# Altium footprint library Connector_PinSocket_1.00mm.PcbLib: 156 footprints (part 9 of 10)
Each footprint in its own frame and in the unit in brackets; x right, y up, seen from the top. Pads: shape width x height; smd on the part's side, far side on the other; paste and mask are expansions set on the pad; w line width, h text height; cw(c..) or ccw(c..) is an arc to the next point about the centre after c.
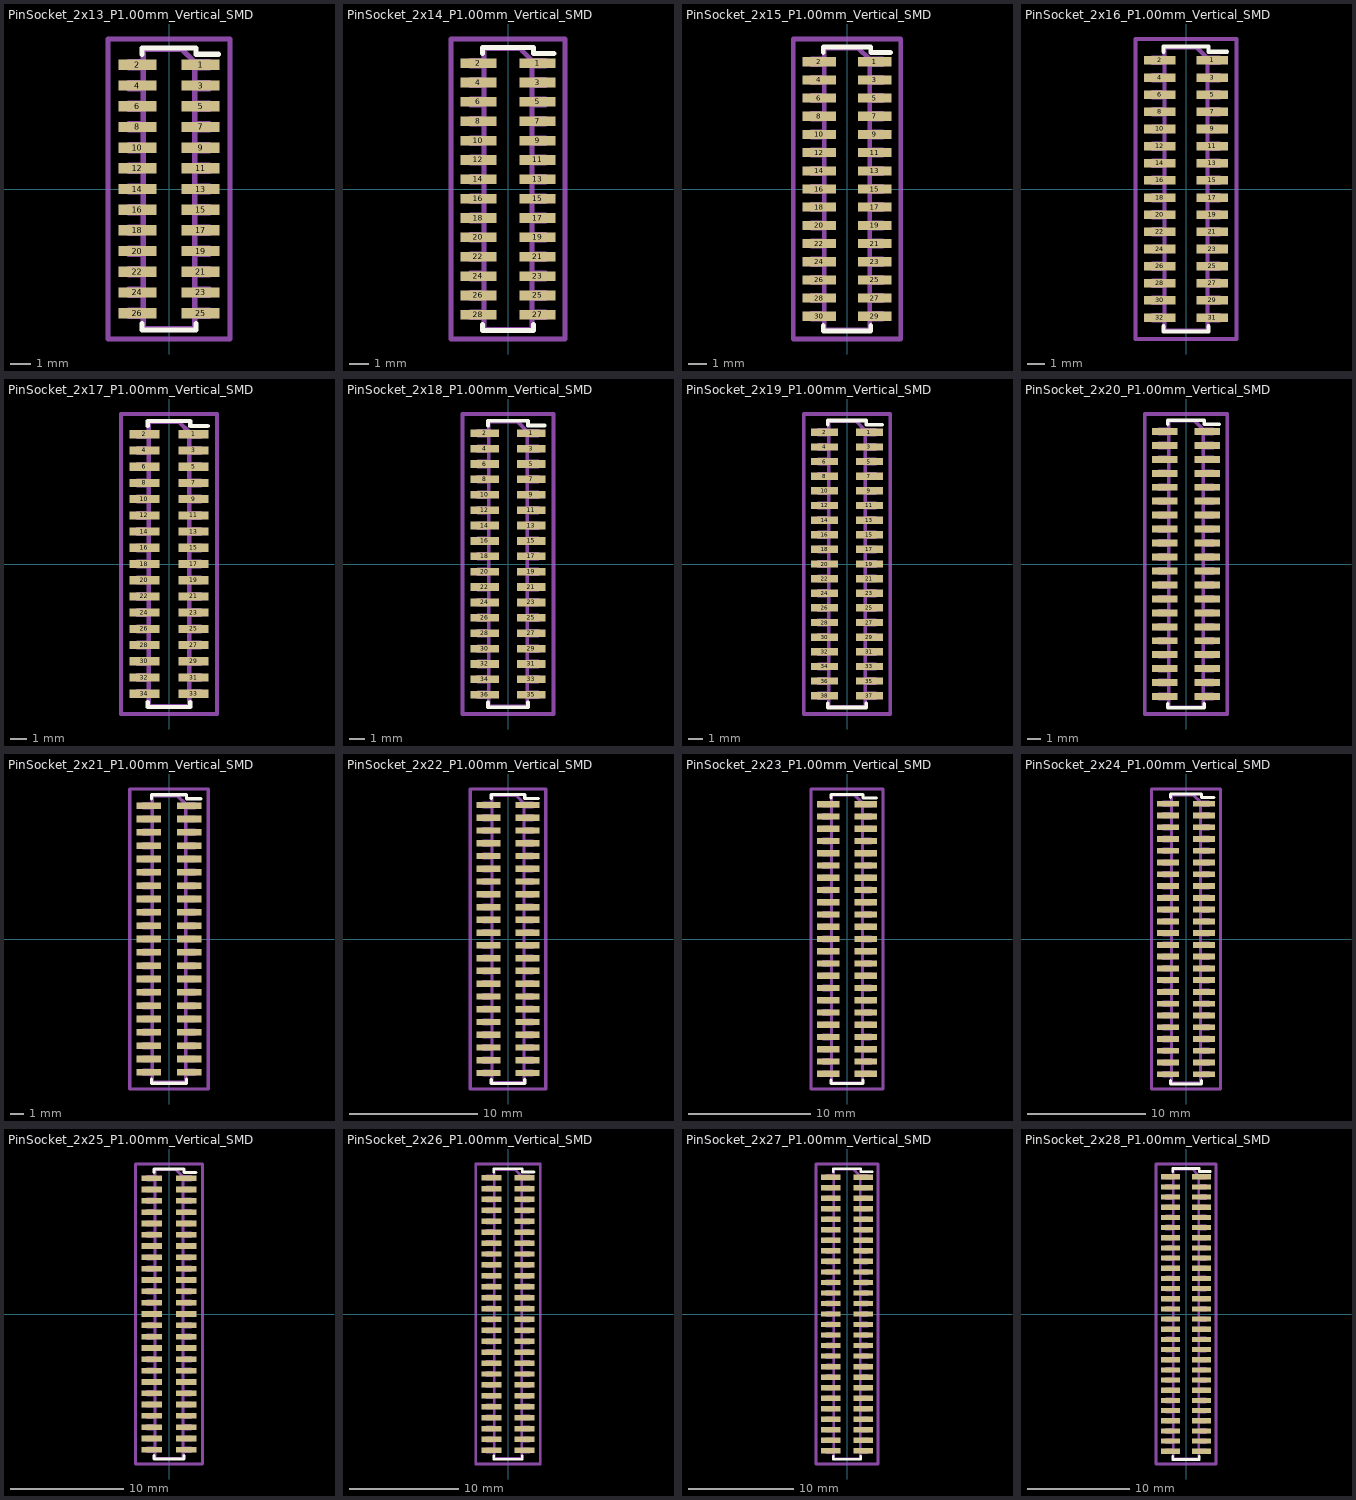
[diagram p8: the footprints below, top view; thin cyan lines are the x and y axes]

## PinSocket_2x13_P1.00mm_Vertical_SMD [mm]
pads (26):
  rect 1.85x0.5 smd: 1(1.525,6) 2(-1.525,6) 3(1.525,5) 4(-1.525,5) 5(1.525,4) 6(-1.525,4) 7(1.525,3) 8(-1.525,3) 9(1.525,2) 10(-1.525,2) 11(1.525,1) 12(-1.525,1) 13(1.525,0) 14(-1.525,0) 15(1.525,-1) 16(-1.525,-1) 17(1.525,-2) 18(-1.525,-2) 19(1.525,-3) 20(-1.525,-3) 21(1.525,-4) 22(-1.525,-4) 23(1.525,-5) 24(-1.525,-5) 25(1.525,-6) 26(-1.525,-6)
F.SilkS:
  lines w0.254: -1.31,-6.51 -1.31,-6.81 1.31,-6.81 1.31,-6.51 ; -1.31,6.51 -1.31,6.81 1.31,6.81 1.31,6.51 2.39,6.51
Top Assembly:
  lines w0.254: -1.25,-6.15 -1.95,-6.15 -1.95,-5.85 -1.25,-5.85 ; -1.25,-5.15 -1.95,-5.15 -1.95,-4.85 -1.25,-4.85 ; -1.25,-4.15 -1.95,-4.15 -1.95,-3.85 -1.25,-3.85 ; -1.25,-3.15 -1.95,-3.15 -1.95,-2.85 -1.25,-2.85 ; -1.25,-2.15 -1.95,-2.15 -1.95,-1.85 -1.25,-1.85 ; -1.25,-1.15 -1.95,-1.15 -1.95,-0.85 -1.25,-0.85 ; -1.25,-0.15 -1.95,-0.15 -1.95,0.15 -1.25,0.15 ; -1.25,0.85 -1.95,0.85 -1.95,1.15 -1.25,1.15 ; -1.25,1.85 -1.95,1.85 -1.95,2.15 -1.25,2.15 ; -1.25,2.85 -1.95,2.85 -1.95,3.15 -1.25,3.15 ; -1.25,3.85 -1.95,3.85 -1.95,4.15 -1.25,4.15 ; -1.25,4.85 -1.95,4.85 -1.95,5.15 -1.25,5.15 ; -1.25,5.85 -1.95,5.85 -1.95,6.15 -1.25,6.15 ; 1.25,-6.15 1.95,-6.15 1.95,-5.85 1.25,-5.85 ; 1.25,-5.15 1.95,-5.15 1.95,-4.85 1.25,-4.85 ; 1.25,-4.15 1.95,-4.15 1.95,-3.85 1.25,-3.85 ; 1.25,-3.15 1.95,-3.15 1.95,-2.85 1.25,-2.85 ; 1.25,-2.15 1.95,-2.15 1.95,-1.85 1.25,-1.85 ; 1.25,-1.15 1.95,-1.15 1.95,-0.85 1.25,-0.85 ; 1.25,-0.15 1.95,-0.15 1.95,0.15 1.25,0.15 ; 1.25,0.85 1.95,0.85 1.95,1.15 1.25,1.15 ; 1.25,1.85 1.95,1.85 1.95,2.15 1.25,2.15 ; 1.25,2.85 1.95,2.85 1.95,3.15 1.25,3.15 ; 1.25,3.85 1.95,3.85 1.95,4.15 1.25,4.15 ; 1.25,4.85 1.95,4.85 1.95,5.15 1.25,5.15 ; 1.25,5.85 1.95,5.85 1.95,6.15 1.25,6.15 ; -1.25,-6.75 1.25,-6.75 1.25,6.125 0.625,6.75 -1.25,6.75 -1.25,-6.75
  text "'.Designator'" at 0.84,-4.047 h1
Top Courtyard:
  lines w0.254: -2.95,-7.25 2.95,-7.25 2.95,7.25 -2.95,7.25 -2.95,-7.25
Top Designator:
  text ".Designator" at -7.618,-0.508 h1.52

## PinSocket_2x14_P1.00mm_Vertical_SMD [mm]
pads (28):
  rect 1.85x0.5 smd: 1(1.525,6.5) 2(-1.525,6.5) 3(1.525,5.5) 4(-1.525,5.5) 5(1.525,4.5) 6(-1.525,4.5) 7(1.525,3.5) 8(-1.525,3.5) 9(1.525,2.5) 10(-1.525,2.5) 11(1.525,1.5) 12(-1.525,1.5) 13(1.525,0.5) 14(-1.525,0.5) 15(1.525,-0.5) 16(-1.525,-0.5) 17(1.525,-1.5) 18(-1.525,-1.5) 19(1.525,-2.5) 20(-1.525,-2.5) 21(1.525,-3.5) 22(-1.525,-3.5) 23(1.525,-4.5) 24(-1.525,-4.5) 25(1.525,-5.5) 26(-1.525,-5.5) 27(1.525,-6.5) 28(-1.525,-6.5)
F.SilkS:
  lines w0.254: -1.31,-7.01 -1.31,-7.31 1.31,-7.31 1.31,-7.01 ; -1.31,7.01 -1.31,7.31 1.31,7.31 1.31,7.01 2.39,7.01
Top Assembly:
  lines w0.254: -1.25,-6.65 -1.95,-6.65 -1.95,-6.35 -1.25,-6.35 ; -1.25,-5.65 -1.95,-5.65 -1.95,-5.35 -1.25,-5.35 ; -1.25,-4.65 -1.95,-4.65 -1.95,-4.35 -1.25,-4.35 ; -1.25,-3.65 -1.95,-3.65 -1.95,-3.35 -1.25,-3.35 ; -1.25,-2.65 -1.95,-2.65 -1.95,-2.35 -1.25,-2.35 ; -1.25,-1.65 -1.95,-1.65 -1.95,-1.35 -1.25,-1.35 ; -1.25,-0.65 -1.95,-0.65 -1.95,-0.35 -1.25,-0.35 ; -1.25,0.35 -1.95,0.35 -1.95,0.65 -1.25,0.65 ; -1.25,1.35 -1.95,1.35 -1.95,1.65 -1.25,1.65 ; -1.25,2.35 -1.95,2.35 -1.95,2.65 -1.25,2.65 ; -1.25,3.35 -1.95,3.35 -1.95,3.65 -1.25,3.65 ; -1.25,4.35 -1.95,4.35 -1.95,4.65 -1.25,4.65 ; -1.25,5.35 -1.95,5.35 -1.95,5.65 -1.25,5.65 ; -1.25,6.35 -1.95,6.35 -1.95,6.65 -1.25,6.65 ; 1.25,-6.65 1.95,-6.65 1.95,-6.35 1.25,-6.35 ; 1.25,-5.65 1.95,-5.65 1.95,-5.35 1.25,-5.35 ; 1.25,-4.65 1.95,-4.65 1.95,-4.35 1.25,-4.35 ; 1.25,-3.65 1.95,-3.65 1.95,-3.35 1.25,-3.35 ; 1.25,-2.65 1.95,-2.65 1.95,-2.35 1.25,-2.35 ; 1.25,-1.65 1.95,-1.65 1.95,-1.35 1.25,-1.35 ; 1.25,-0.65 1.95,-0.65 1.95,-0.35 1.25,-0.35 ; 1.25,0.35 1.95,0.35 1.95,0.65 1.25,0.65 ; 1.25,1.35 1.95,1.35 1.95,1.65 1.25,1.65 ; 1.25,2.35 1.95,2.35 1.95,2.65 1.25,2.65 ; 1.25,3.35 1.95,3.35 1.95,3.65 1.25,3.65 ; 1.25,4.35 1.95,4.35 1.95,4.65 1.25,4.65 ; 1.25,5.35 1.95,5.35 1.95,5.65 1.25,5.65 ; 1.25,6.35 1.95,6.35 1.95,6.65 1.25,6.65 ; -1.25,-7.25 1.25,-7.25 1.25,6.625 0.625,7.25 -1.25,7.25 -1.25,-7.25
  text "'.Designator'" at 0.84,-4.047 h1
Top Courtyard:
  lines w0.254: -2.95,-7.75 2.95,-7.75 2.95,7.75 -2.95,7.75 -2.95,-7.75
Top Designator:
  text ".Designator" at -7.618,-0.508 h1.52

## PinSocket_2x15_P1.00mm_Vertical_SMD [mm]
pads (30):
  rect 1.85x0.5 smd: 1(1.525,7) 2(-1.525,7) 3(1.525,6) 4(-1.525,6) 5(1.525,5) 6(-1.525,5) 7(1.525,4) 8(-1.525,4) 9(1.525,3) 10(-1.525,3) 11(1.525,2) 12(-1.525,2) 13(1.525,1) 14(-1.525,1) 15(1.525,0) 16(-1.525,0) 17(1.525,-1) 18(-1.525,-1) 19(1.525,-2) 20(-1.525,-2) 21(1.525,-3) 22(-1.525,-3) 23(1.525,-4) 24(-1.525,-4) 25(1.525,-5) 26(-1.525,-5) 27(1.525,-6) 28(-1.525,-6) 29(1.525,-7) 30(-1.525,-7)
F.SilkS:
  lines w0.254: -1.31,-7.51 -1.31,-7.81 1.31,-7.81 1.31,-7.51 ; -1.31,7.51 -1.31,7.81 1.31,7.81 1.31,7.51 2.39,7.51
Top Assembly:
  lines w0.254: -1.25,-7.15 -1.95,-7.15 -1.95,-6.85 -1.25,-6.85 ; -1.25,-6.15 -1.95,-6.15 -1.95,-5.85 -1.25,-5.85 ; -1.25,-5.15 -1.95,-5.15 -1.95,-4.85 -1.25,-4.85 ; -1.25,-4.15 -1.95,-4.15 -1.95,-3.85 -1.25,-3.85 ; -1.25,-3.15 -1.95,-3.15 -1.95,-2.85 -1.25,-2.85 ; -1.25,-2.15 -1.95,-2.15 -1.95,-1.85 -1.25,-1.85 ; -1.25,-1.15 -1.95,-1.15 -1.95,-0.85 -1.25,-0.85 ; -1.25,-0.15 -1.95,-0.15 -1.95,0.15 -1.25,0.15 ; -1.25,0.85 -1.95,0.85 -1.95,1.15 -1.25,1.15 ; -1.25,1.85 -1.95,1.85 -1.95,2.15 -1.25,2.15 ; -1.25,2.85 -1.95,2.85 -1.95,3.15 -1.25,3.15 ; -1.25,3.85 -1.95,3.85 -1.95,4.15 -1.25,4.15 ; -1.25,4.85 -1.95,4.85 -1.95,5.15 -1.25,5.15 ; -1.25,5.85 -1.95,5.85 -1.95,6.15 -1.25,6.15 ; -1.25,6.85 -1.95,6.85 -1.95,7.15 -1.25,7.15 ; 1.25,-7.15 1.95,-7.15 1.95,-6.85 1.25,-6.85 ; 1.25,-6.15 1.95,-6.15 1.95,-5.85 1.25,-5.85 ; 1.25,-5.15 1.95,-5.15 1.95,-4.85 1.25,-4.85 ; 1.25,-4.15 1.95,-4.15 1.95,-3.85 1.25,-3.85 ; 1.25,-3.15 1.95,-3.15 1.95,-2.85 1.25,-2.85 ; 1.25,-2.15 1.95,-2.15 1.95,-1.85 1.25,-1.85 ; 1.25,-1.15 1.95,-1.15 1.95,-0.85 1.25,-0.85 ; 1.25,-0.15 1.95,-0.15 1.95,0.15 1.25,0.15 ; 1.25,0.85 1.95,0.85 1.95,1.15 1.25,1.15 ; 1.25,1.85 1.95,1.85 1.95,2.15 1.25,2.15 ; 1.25,2.85 1.95,2.85 1.95,3.15 1.25,3.15 ; 1.25,3.85 1.95,3.85 1.95,4.15 1.25,4.15 ; 1.25,4.85 1.95,4.85 1.95,5.15 1.25,5.15 ; 1.25,5.85 1.95,5.85 1.95,6.15 1.25,6.15 ; 1.25,6.85 1.95,6.85 1.95,7.15 1.25,7.15 ; -1.25,-7.75 1.25,-7.75 1.25,7.125 0.625,7.75 -1.25,7.75 -1.25,-7.75
  text "'.Designator'" at 0.84,-4.047 h1
Top Courtyard:
  lines w0.254: -2.95,-8.25 2.95,-8.25 2.95,8.25 -2.95,8.25 -2.95,-8.25
Top Designator:
  text ".Designator" at -7.618,-0.508 h1.52

## PinSocket_2x16_P1.00mm_Vertical_SMD [mm]
pads (32):
  rect 1.85x0.5 smd: 1(1.525,7.5) 2(-1.525,7.5) 3(1.525,6.5) 4(-1.525,6.5) 5(1.525,5.5) 6(-1.525,5.5) 7(1.525,4.5) 8(-1.525,4.5) 9(1.525,3.5) 10(-1.525,3.5) 11(1.525,2.5) 12(-1.525,2.5) 13(1.525,1.5) 14(-1.525,1.5) 15(1.525,0.5) 16(-1.525,0.5) 17(1.525,-0.5) 18(-1.525,-0.5) 19(1.525,-1.5) 20(-1.525,-1.5) 21(1.525,-2.5) 22(-1.525,-2.5) 23(1.525,-3.5) 24(-1.525,-3.5) 25(1.525,-4.5) 26(-1.525,-4.5) 27(1.525,-5.5) 28(-1.525,-5.5) 29(1.525,-6.5) 30(-1.525,-6.5) 31(1.525,-7.5) 32(-1.525,-7.5)
F.SilkS:
  lines w0.254: -1.31,-8.01 -1.31,-8.31 1.31,-8.31 1.31,-8.01 ; -1.31,8.01 -1.31,8.31 1.31,8.31 1.31,8.01 2.39,8.01
Top Assembly:
  lines w0.254: -1.25,-7.65 -1.95,-7.65 -1.95,-7.35 -1.25,-7.35 ; -1.25,-6.65 -1.95,-6.65 -1.95,-6.35 -1.25,-6.35 ; -1.25,-5.65 -1.95,-5.65 -1.95,-5.35 -1.25,-5.35 ; -1.25,-4.65 -1.95,-4.65 -1.95,-4.35 -1.25,-4.35 ; -1.25,-3.65 -1.95,-3.65 -1.95,-3.35 -1.25,-3.35 ; -1.25,-2.65 -1.95,-2.65 -1.95,-2.35 -1.25,-2.35 ; -1.25,-1.65 -1.95,-1.65 -1.95,-1.35 -1.25,-1.35 ; -1.25,-0.65 -1.95,-0.65 -1.95,-0.35 -1.25,-0.35 ; -1.25,0.35 -1.95,0.35 -1.95,0.65 -1.25,0.65 ; -1.25,1.35 -1.95,1.35 -1.95,1.65 -1.25,1.65 ; -1.25,2.35 -1.95,2.35 -1.95,2.65 -1.25,2.65 ; -1.25,3.35 -1.95,3.35 -1.95,3.65 -1.25,3.65 ; -1.25,4.35 -1.95,4.35 -1.95,4.65 -1.25,4.65 ; -1.25,5.35 -1.95,5.35 -1.95,5.65 -1.25,5.65 ; -1.25,6.35 -1.95,6.35 -1.95,6.65 -1.25,6.65 ; -1.25,7.35 -1.95,7.35 -1.95,7.65 -1.25,7.65 ; 1.25,-7.65 1.95,-7.65 1.95,-7.35 1.25,-7.35 ; 1.25,-6.65 1.95,-6.65 1.95,-6.35 1.25,-6.35 ; 1.25,-5.65 1.95,-5.65 1.95,-5.35 1.25,-5.35 ; 1.25,-4.65 1.95,-4.65 1.95,-4.35 1.25,-4.35 ; 1.25,-3.65 1.95,-3.65 1.95,-3.35 1.25,-3.35 ; 1.25,-2.65 1.95,-2.65 1.95,-2.35 1.25,-2.35 ; 1.25,-1.65 1.95,-1.65 1.95,-1.35 1.25,-1.35 ; 1.25,-0.65 1.95,-0.65 1.95,-0.35 1.25,-0.35 ; 1.25,0.35 1.95,0.35 1.95,0.65 1.25,0.65 ; 1.25,1.35 1.95,1.35 1.95,1.65 1.25,1.65 ; 1.25,2.35 1.95,2.35 1.95,2.65 1.25,2.65 ; 1.25,3.35 1.95,3.35 1.95,3.65 1.25,3.65 ; 1.25,4.35 1.95,4.35 1.95,4.65 1.25,4.65 ; 1.25,5.35 1.95,5.35 1.95,5.65 1.25,5.65 ; 1.25,6.35 1.95,6.35 1.95,6.65 1.25,6.65 ; 1.25,7.35 1.95,7.35 1.95,7.65 1.25,7.65 ; -1.25,-8.25 1.25,-8.25 1.25,7.625 0.625,8.25 -1.25,8.25 -1.25,-8.25
  text "'.Designator'" at 0.84,-4.047 h1
Top Courtyard:
  lines w0.254: -2.95,-8.75 2.95,-8.75 2.95,8.75 -2.95,8.75 -2.95,-8.75
Top Designator:
  text ".Designator" at -7.618,-0.508 h1.52

## PinSocket_2x17_P1.00mm_Vertical_SMD [mm]
pads (34):
  rect 1.85x0.5 smd: 1(1.525,8) 2(-1.525,8) 3(1.525,7) 4(-1.525,7) 5(1.525,6) 6(-1.525,6) 7(1.525,5) 8(-1.525,5) 9(1.525,4) 10(-1.525,4) 11(1.525,3) 12(-1.525,3) 13(1.525,2) 14(-1.525,2) 15(1.525,1) 16(-1.525,1) 17(1.525,0) 18(-1.525,0) 19(1.525,-1) 20(-1.525,-1) 21(1.525,-2) 22(-1.525,-2) 23(1.525,-3) 24(-1.525,-3) 25(1.525,-4) 26(-1.525,-4) 27(1.525,-5) 28(-1.525,-5) 29(1.525,-6) 30(-1.525,-6) 31(1.525,-7) 32(-1.525,-7) 33(1.525,-8) 34(-1.525,-8)
F.SilkS:
  lines w0.254: -1.31,-8.51 -1.31,-8.81 1.31,-8.81 1.31,-8.51 ; -1.31,8.51 -1.31,8.81 1.31,8.81 1.31,8.51 2.39,8.51
Top Assembly:
  lines w0.254: -1.25,-8.15 -1.95,-8.15 -1.95,-7.85 -1.25,-7.85 ; -1.25,-7.15 -1.95,-7.15 -1.95,-6.85 -1.25,-6.85 ; -1.25,-6.15 -1.95,-6.15 -1.95,-5.85 -1.25,-5.85 ; -1.25,-5.15 -1.95,-5.15 -1.95,-4.85 -1.25,-4.85 ; -1.25,-4.15 -1.95,-4.15 -1.95,-3.85 -1.25,-3.85 ; -1.25,-3.15 -1.95,-3.15 -1.95,-2.85 -1.25,-2.85 ; -1.25,-2.15 -1.95,-2.15 -1.95,-1.85 -1.25,-1.85 ; -1.25,-1.15 -1.95,-1.15 -1.95,-0.85 -1.25,-0.85 ; -1.25,-0.15 -1.95,-0.15 -1.95,0.15 -1.25,0.15 ; -1.25,0.85 -1.95,0.85 -1.95,1.15 -1.25,1.15 ; -1.25,1.85 -1.95,1.85 -1.95,2.15 -1.25,2.15 ; -1.25,2.85 -1.95,2.85 -1.95,3.15 -1.25,3.15 ; -1.25,3.85 -1.95,3.85 -1.95,4.15 -1.25,4.15 ; -1.25,4.85 -1.95,4.85 -1.95,5.15 -1.25,5.15 ; -1.25,5.85 -1.95,5.85 -1.95,6.15 -1.25,6.15 ; -1.25,6.85 -1.95,6.85 -1.95,7.15 -1.25,7.15 ; -1.25,7.85 -1.95,7.85 -1.95,8.15 -1.25,8.15 ; 1.25,-8.15 1.95,-8.15 1.95,-7.85 1.25,-7.85 ; 1.25,-7.15 1.95,-7.15 1.95,-6.85 1.25,-6.85 ; 1.25,-6.15 1.95,-6.15 1.95,-5.85 1.25,-5.85 ; 1.25,-5.15 1.95,-5.15 1.95,-4.85 1.25,-4.85 ; 1.25,-4.15 1.95,-4.15 1.95,-3.85 1.25,-3.85 ; 1.25,-3.15 1.95,-3.15 1.95,-2.85 1.25,-2.85 ; 1.25,-2.15 1.95,-2.15 1.95,-1.85 1.25,-1.85 ; 1.25,-1.15 1.95,-1.15 1.95,-0.85 1.25,-0.85 ; 1.25,-0.15 1.95,-0.15 1.95,0.15 1.25,0.15 ; 1.25,0.85 1.95,0.85 1.95,1.15 1.25,1.15 ; 1.25,1.85 1.95,1.85 1.95,2.15 1.25,2.15 ; 1.25,2.85 1.95,2.85 1.95,3.15 1.25,3.15 ; 1.25,3.85 1.95,3.85 1.95,4.15 1.25,4.15 ; 1.25,4.85 1.95,4.85 1.95,5.15 1.25,5.15 ; 1.25,5.85 1.95,5.85 1.95,6.15 1.25,6.15 ; 1.25,6.85 1.95,6.85 1.95,7.15 1.25,7.15 ; 1.25,7.85 1.95,7.85 1.95,8.15 1.25,8.15 ; -1.25,-8.75 1.25,-8.75 1.25,8.125 0.625,8.75 -1.25,8.75 -1.25,-8.75
  text "'.Designator'" at 0.84,-4.047 h1
Top Courtyard:
  lines w0.254: -2.95,-9.25 2.95,-9.25 2.95,9.25 -2.95,9.25 -2.95,-9.25
Top Designator:
  text ".Designator" at -7.618,-0.508 h1.52

## PinSocket_2x18_P1.00mm_Vertical_SMD [mm]
pads (36):
  rect 1.85x0.5 smd: 1(1.525,8.5) 2(-1.525,8.5) 3(1.525,7.5) 4(-1.525,7.5) 5(1.525,6.5) 6(-1.525,6.5) 7(1.525,5.5) 8(-1.525,5.5) 9(1.525,4.5) 10(-1.525,4.5) 11(1.525,3.5) 12(-1.525,3.5) 13(1.525,2.5) 14(-1.525,2.5) 15(1.525,1.5) 16(-1.525,1.5) 17(1.525,0.5) 18(-1.525,0.5) 19(1.525,-0.5) 20(-1.525,-0.5) 21(1.525,-1.5) 22(-1.525,-1.5) 23(1.525,-2.5) 24(-1.525,-2.5) 25(1.525,-3.5) 26(-1.525,-3.5) 27(1.525,-4.5) 28(-1.525,-4.5) 29(1.525,-5.5) 30(-1.525,-5.5) 31(1.525,-6.5) 32(-1.525,-6.5) 33(1.525,-7.5) 34(-1.525,-7.5) 35(1.525,-8.5) 36(-1.525,-8.5)
F.SilkS:
  lines w0.254: -1.31,-9.01 -1.31,-9.31 1.31,-9.31 1.31,-9.01 ; -1.31,9.01 -1.31,9.31 1.31,9.31 1.31,9.01 2.39,9.01
Top Assembly:
  lines w0.254: -1.25,-8.65 -1.95,-8.65 -1.95,-8.35 -1.25,-8.35 ; -1.25,-7.65 -1.95,-7.65 -1.95,-7.35 -1.25,-7.35 ; -1.25,-6.65 -1.95,-6.65 -1.95,-6.35 -1.25,-6.35 ; -1.25,-5.65 -1.95,-5.65 -1.95,-5.35 -1.25,-5.35 ; -1.25,-4.65 -1.95,-4.65 -1.95,-4.35 -1.25,-4.35 ; -1.25,-3.65 -1.95,-3.65 -1.95,-3.35 -1.25,-3.35 ; -1.25,-2.65 -1.95,-2.65 -1.95,-2.35 -1.25,-2.35 ; -1.25,-1.65 -1.95,-1.65 -1.95,-1.35 -1.25,-1.35 ; -1.25,-0.65 -1.95,-0.65 -1.95,-0.35 -1.25,-0.35 ; -1.25,0.35 -1.95,0.35 -1.95,0.65 -1.25,0.65 ; -1.25,1.35 -1.95,1.35 -1.95,1.65 -1.25,1.65 ; -1.25,2.35 -1.95,2.35 -1.95,2.65 -1.25,2.65 ; -1.25,3.35 -1.95,3.35 -1.95,3.65 -1.25,3.65 ; -1.25,4.35 -1.95,4.35 -1.95,4.65 -1.25,4.65 ; -1.25,5.35 -1.95,5.35 -1.95,5.65 -1.25,5.65 ; -1.25,6.35 -1.95,6.35 -1.95,6.65 -1.25,6.65 ; -1.25,7.35 -1.95,7.35 -1.95,7.65 -1.25,7.65 ; -1.25,8.35 -1.95,8.35 -1.95,8.65 -1.25,8.65 ; 1.25,-8.65 1.95,-8.65 1.95,-8.35 1.25,-8.35 ; 1.25,-7.65 1.95,-7.65 1.95,-7.35 1.25,-7.35 ; 1.25,-6.65 1.95,-6.65 1.95,-6.35 1.25,-6.35 ; 1.25,-5.65 1.95,-5.65 1.95,-5.35 1.25,-5.35 ; 1.25,-4.65 1.95,-4.65 1.95,-4.35 1.25,-4.35 ; 1.25,-3.65 1.95,-3.65 1.95,-3.35 1.25,-3.35 ; 1.25,-2.65 1.95,-2.65 1.95,-2.35 1.25,-2.35 ; 1.25,-1.65 1.95,-1.65 1.95,-1.35 1.25,-1.35 ; 1.25,-0.65 1.95,-0.65 1.95,-0.35 1.25,-0.35 ; 1.25,0.35 1.95,0.35 1.95,0.65 1.25,0.65 ; 1.25,1.35 1.95,1.35 1.95,1.65 1.25,1.65 ; 1.25,2.35 1.95,2.35 1.95,2.65 1.25,2.65 ; 1.25,3.35 1.95,3.35 1.95,3.65 1.25,3.65 ; 1.25,4.35 1.95,4.35 1.95,4.65 1.25,4.65 ; 1.25,5.35 1.95,5.35 1.95,5.65 1.25,5.65 ; 1.25,6.35 1.95,6.35 1.95,6.65 1.25,6.65 ; 1.25,7.35 1.95,7.35 1.95,7.65 1.25,7.65 ; 1.25,8.35 1.95,8.35 1.95,8.65 1.25,8.65 ; -1.25,-9.25 1.25,-9.25 1.25,8.625 0.625,9.25 -1.25,9.25 -1.25,-9.25
  text "'.Designator'" at 0.84,-4.047 h1
Top Courtyard:
  lines w0.254: -2.95,-9.75 2.95,-9.75 2.95,9.75 -2.95,9.75 -2.95,-9.75
Top Designator:
  text ".Designator" at -7.618,-0.508 h1.52

## PinSocket_2x19_P1.00mm_Vertical_SMD [mm]
pads (38):
  rect 1.85x0.5 smd: 1(1.525,9) 2(-1.525,9) 3(1.525,8) 4(-1.525,8) 5(1.525,7) 6(-1.525,7) 7(1.525,6) 8(-1.525,6) 9(1.525,5) 10(-1.525,5) 11(1.525,4) 12(-1.525,4) 13(1.525,3) 14(-1.525,3) 15(1.525,2) 16(-1.525,2) 17(1.525,1) 18(-1.525,1) 19(1.525,0) 20(-1.525,0) 21(1.525,-1) 22(-1.525,-1) 23(1.525,-2) 24(-1.525,-2) 25(1.525,-3) 26(-1.525,-3) 27(1.525,-4) 28(-1.525,-4) 29(1.525,-5) 30(-1.525,-5) 31(1.525,-6) 32(-1.525,-6) 33(1.525,-7) 34(-1.525,-7) 35(1.525,-8) 36(-1.525,-8) 37(1.525,-9) 38(-1.525,-9)
F.SilkS:
  lines w0.254: -1.31,-9.51 -1.31,-9.81 1.31,-9.81 1.31,-9.51 ; -1.31,9.51 -1.31,9.81 1.31,9.81 1.31,9.51 2.39,9.51
Top Assembly:
  lines w0.254: -1.25,-9.15 -1.95,-9.15 -1.95,-8.85 -1.25,-8.85 ; -1.25,-8.15 -1.95,-8.15 -1.95,-7.85 -1.25,-7.85 ; -1.25,-7.15 -1.95,-7.15 -1.95,-6.85 -1.25,-6.85 ; -1.25,-6.15 -1.95,-6.15 -1.95,-5.85 -1.25,-5.85 ; -1.25,-5.15 -1.95,-5.15 -1.95,-4.85 -1.25,-4.85 ; -1.25,-4.15 -1.95,-4.15 -1.95,-3.85 -1.25,-3.85 ; -1.25,-3.15 -1.95,-3.15 -1.95,-2.85 -1.25,-2.85 ; -1.25,-2.15 -1.95,-2.15 -1.95,-1.85 -1.25,-1.85 ; -1.25,-1.15 -1.95,-1.15 -1.95,-0.85 -1.25,-0.85 ; -1.25,-0.15 -1.95,-0.15 -1.95,0.15 -1.25,0.15 ; -1.25,0.85 -1.95,0.85 -1.95,1.15 -1.25,1.15 ; -1.25,1.85 -1.95,1.85 -1.95,2.15 -1.25,2.15 ; -1.25,2.85 -1.95,2.85 -1.95,3.15 -1.25,3.15 ; -1.25,3.85 -1.95,3.85 -1.95,4.15 -1.25,4.15 ; -1.25,4.85 -1.95,4.85 -1.95,5.15 -1.25,5.15 ; -1.25,5.85 -1.95,5.85 -1.95,6.15 -1.25,6.15 ; -1.25,6.85 -1.95,6.85 -1.95,7.15 -1.25,7.15 ; -1.25,7.85 -1.95,7.85 -1.95,8.15 -1.25,8.15 ; -1.25,8.85 -1.95,8.85 -1.95,9.15 -1.25,9.15 ; 1.25,-9.15 1.95,-9.15 1.95,-8.85 1.25,-8.85 ; 1.25,-8.15 1.95,-8.15 1.95,-7.85 1.25,-7.85 ; 1.25,-7.15 1.95,-7.15 1.95,-6.85 1.25,-6.85 ; 1.25,-6.15 1.95,-6.15 1.95,-5.85 1.25,-5.85 ; 1.25,-5.15 1.95,-5.15 1.95,-4.85 1.25,-4.85 ; 1.25,-4.15 1.95,-4.15 1.95,-3.85 1.25,-3.85 ; 1.25,-3.15 1.95,-3.15 1.95,-2.85 1.25,-2.85 ; 1.25,-2.15 1.95,-2.15 1.95,-1.85 1.25,-1.85 ; 1.25,-1.15 1.95,-1.15 1.95,-0.85 1.25,-0.85 ; 1.25,-0.15 1.95,-0.15 1.95,0.15 1.25,0.15 ; 1.25,0.85 1.95,0.85 1.95,1.15 1.25,1.15 ; 1.25,1.85 1.95,1.85 1.95,2.15 1.25,2.15 ; 1.25,2.85 1.95,2.85 1.95,3.15 1.25,3.15 ; 1.25,3.85 1.95,3.85 1.95,4.15 1.25,4.15 ; 1.25,4.85 1.95,4.85 1.95,5.15 1.25,5.15 ; 1.25,5.85 1.95,5.85 1.95,6.15 1.25,6.15 ; 1.25,6.85 1.95,6.85 1.95,7.15 1.25,7.15 ; 1.25,7.85 1.95,7.85 1.95,8.15 1.25,8.15 ; 1.25,8.85 1.95,8.85 1.95,9.15 1.25,9.15 ; -1.25,-9.75 1.25,-9.75 1.25,9.125 0.625,9.75 -1.25,9.75 -1.25,-9.75
  text "'.Designator'" at 0.84,-4.047 h1
Top Courtyard:
  lines w0.254: -2.95,-10.25 2.95,-10.25 2.95,10.25 -2.95,10.25 -2.95,-10.25
Top Designator:
  text ".Designator" at -7.618,-0.508 h1.52

## PinSocket_2x20_P1.00mm_Vertical_SMD [mm]
pads (40):
  rect 1.85x0.5 smd: 1(1.525,9.5) 2(-1.525,9.5) 3(1.525,8.5) 4(-1.525,8.5) 5(1.525,7.5) 6(-1.525,7.5) 7(1.525,6.5) 8(-1.525,6.5) 9(1.525,5.5) 10(-1.525,5.5) 11(1.525,4.5) 12(-1.525,4.5) 13(1.525,3.5) 14(-1.525,3.5) 15(1.525,2.5) 16(-1.525,2.5) 17(1.525,1.5) 18(-1.525,1.5) 19(1.525,0.5) 20(-1.525,0.5) 21(1.525,-0.5) 22(-1.525,-0.5) 23(1.525,-1.5) 24(-1.525,-1.5) 25(1.525,-2.5) 26(-1.525,-2.5) 27(1.525,-3.5) 28(-1.525,-3.5) 29(1.525,-4.5) 30(-1.525,-4.5) 31(1.525,-5.5) 32(-1.525,-5.5) 33(1.525,-6.5) 34(-1.525,-6.5) 35(1.525,-7.5) 36(-1.525,-7.5) 37(1.525,-8.5) 38(-1.525,-8.5) 39(1.525,-9.5) 40(-1.525,-9.5)
F.SilkS:
  lines w0.254: -1.31,-10.01 -1.31,-10.31 1.31,-10.31 1.31,-10.01 ; -1.31,10.01 -1.31,10.31 1.31,10.31 1.31,10.01 2.39,10.01
Top Assembly:
  lines w0.254: -1.25,-9.65 -1.95,-9.65 -1.95,-9.35 -1.25,-9.35 ; -1.25,-8.65 -1.95,-8.65 -1.95,-8.35 -1.25,-8.35 ; -1.25,-7.65 -1.95,-7.65 -1.95,-7.35 -1.25,-7.35 ; -1.25,-6.65 -1.95,-6.65 -1.95,-6.35 -1.25,-6.35 ; -1.25,-5.65 -1.95,-5.65 -1.95,-5.35 -1.25,-5.35 ; -1.25,-4.65 -1.95,-4.65 -1.95,-4.35 -1.25,-4.35 ; -1.25,-3.65 -1.95,-3.65 -1.95,-3.35 -1.25,-3.35 ; -1.25,-2.65 -1.95,-2.65 -1.95,-2.35 -1.25,-2.35 ; -1.25,-1.65 -1.95,-1.65 -1.95,-1.35 -1.25,-1.35 ; -1.25,-0.65 -1.95,-0.65 -1.95,-0.35 -1.25,-0.35 ; -1.25,0.35 -1.95,0.35 -1.95,0.65 -1.25,0.65 ; -1.25,1.35 -1.95,1.35 -1.95,1.65 -1.25,1.65 ; -1.25,2.35 -1.95,2.35 -1.95,2.65 -1.25,2.65 ; -1.25,3.35 -1.95,3.35 -1.95,3.65 -1.25,3.65 ; -1.25,4.35 -1.95,4.35 -1.95,4.65 -1.25,4.65 ; -1.25,5.35 -1.95,5.35 -1.95,5.65 -1.25,5.65 ; -1.25,6.35 -1.95,6.35 -1.95,6.65 -1.25,6.65 ; -1.25,7.35 -1.95,7.35 -1.95,7.65 -1.25,7.65 ; -1.25,8.35 -1.95,8.35 -1.95,8.65 -1.25,8.65 ; -1.25,9.35 -1.95,9.35 -1.95,9.65 -1.25,9.65 ; 1.25,-9.65 1.95,-9.65 1.95,-9.35 1.25,-9.35 ; 1.25,-8.65 1.95,-8.65 1.95,-8.35 1.25,-8.35 ; 1.25,-7.65 1.95,-7.65 1.95,-7.35 1.25,-7.35 ; 1.25,-6.65 1.95,-6.65 1.95,-6.35 1.25,-6.35 ; 1.25,-5.65 1.95,-5.65 1.95,-5.35 1.25,-5.35 ; 1.25,-4.65 1.95,-4.65 1.95,-4.35 1.25,-4.35 ; 1.25,-3.65 1.95,-3.65 1.95,-3.35 1.25,-3.35 ; 1.25,-2.65 1.95,-2.65 1.95,-2.35 1.25,-2.35 ; 1.25,-1.65 1.95,-1.65 1.95,-1.35 1.25,-1.35 ; 1.25,-0.65 1.95,-0.65 1.95,-0.35 1.25,-0.35 ; 1.25,0.35 1.95,0.35 1.95,0.65 1.25,0.65 ; 1.25,1.35 1.95,1.35 1.95,1.65 1.25,1.65 ; 1.25,2.35 1.95,2.35 1.95,2.65 1.25,2.65 ; 1.25,3.35 1.95,3.35 1.95,3.65 1.25,3.65 ; 1.25,4.35 1.95,4.35 1.95,4.65 1.25,4.65 ; 1.25,5.35 1.95,5.35 1.95,5.65 1.25,5.65 ; 1.25,6.35 1.95,6.35 1.95,6.65 1.25,6.65 ; 1.25,7.35 1.95,7.35 1.95,7.65 1.25,7.65 ; 1.25,8.35 1.95,8.35 1.95,8.65 1.25,8.65 ; 1.25,9.35 1.95,9.35 1.95,9.65 1.25,9.65 ; -1.25,-10.25 1.25,-10.25 1.25,9.625 0.625,10.25 -1.25,10.25 -1.25,-10.25
  text "'.Designator'" at 0.84,-4.047 h1
Top Courtyard:
  lines w0.254: -2.95,-10.75 2.95,-10.75 2.95,10.75 -2.95,10.75 -2.95,-10.75
Top Designator:
  text ".Designator" at -7.618,-0.508 h1.52

## PinSocket_2x21_P1.00mm_Vertical_SMD [mm]
pads (42):
  rect 1.85x0.5 smd: 1(1.525,10) 2(-1.525,10) 3(1.525,9) 4(-1.525,9) 5(1.525,8) 6(-1.525,8) 7(1.525,7) 8(-1.525,7) 9(1.525,6) 10(-1.525,6) 11(1.525,5) 12(-1.525,5) 13(1.525,4) 14(-1.525,4) 15(1.525,3) 16(-1.525,3) 17(1.525,2) 18(-1.525,2) 19(1.525,1) 20(-1.525,1) 21(1.525,0) 22(-1.525,0) 23(1.525,-1) 24(-1.525,-1) 25(1.525,-2) 26(-1.525,-2) 27(1.525,-3) 28(-1.525,-3) 29(1.525,-4) 30(-1.525,-4) 31(1.525,-5) 32(-1.525,-5) 33(1.525,-6) 34(-1.525,-6) 35(1.525,-7) 36(-1.525,-7) 37(1.525,-8) 38(-1.525,-8) 39(1.525,-9) 40(-1.525,-9) 41(1.525,-10) 42(-1.525,-10)
F.SilkS:
  lines w0.254: -1.31,-10.51 -1.31,-10.81 1.31,-10.81 1.31,-10.51 ; -1.31,10.51 -1.31,10.81 1.31,10.81 1.31,10.51 2.39,10.51
Top Assembly:
  lines w0.254: -1.25,-10.15 -1.95,-10.15 -1.95,-9.85 -1.25,-9.85 ; -1.25,-9.15 -1.95,-9.15 -1.95,-8.85 -1.25,-8.85 ; -1.25,-8.15 -1.95,-8.15 -1.95,-7.85 -1.25,-7.85 ; -1.25,-7.15 -1.95,-7.15 -1.95,-6.85 -1.25,-6.85 ; -1.25,-6.15 -1.95,-6.15 -1.95,-5.85 -1.25,-5.85 ; -1.25,-5.15 -1.95,-5.15 -1.95,-4.85 -1.25,-4.85 ; -1.25,-4.15 -1.95,-4.15 -1.95,-3.85 -1.25,-3.85 ; -1.25,-3.15 -1.95,-3.15 -1.95,-2.85 -1.25,-2.85 ; -1.25,-2.15 -1.95,-2.15 -1.95,-1.85 -1.25,-1.85 ; -1.25,-1.15 -1.95,-1.15 -1.95,-0.85 -1.25,-0.85 ; -1.25,-0.15 -1.95,-0.15 -1.95,0.15 -1.25,0.15 ; -1.25,0.85 -1.95,0.85 -1.95,1.15 -1.25,1.15 ; -1.25,1.85 -1.95,1.85 -1.95,2.15 -1.25,2.15 ; -1.25,2.85 -1.95,2.85 -1.95,3.15 -1.25,3.15 ; -1.25,3.85 -1.95,3.85 -1.95,4.15 -1.25,4.15 ; -1.25,4.85 -1.95,4.85 -1.95,5.15 -1.25,5.15 ; -1.25,5.85 -1.95,5.85 -1.95,6.15 -1.25,6.15 ; -1.25,6.85 -1.95,6.85 -1.95,7.15 -1.25,7.15 ; -1.25,7.85 -1.95,7.85 -1.95,8.15 -1.25,8.15 ; -1.25,8.85 -1.95,8.85 -1.95,9.15 -1.25,9.15 ; -1.25,9.85 -1.95,9.85 -1.95,10.15 -1.25,10.15 ; 1.25,-10.15 1.95,-10.15 1.95,-9.85 1.25,-9.85 ; 1.25,-9.15 1.95,-9.15 1.95,-8.85 1.25,-8.85 ; 1.25,-8.15 1.95,-8.15 1.95,-7.85 1.25,-7.85 ; 1.25,-7.15 1.95,-7.15 1.95,-6.85 1.25,-6.85 ; 1.25,-6.15 1.95,-6.15 1.95,-5.85 1.25,-5.85 ; 1.25,-5.15 1.95,-5.15 1.95,-4.85 1.25,-4.85 ; 1.25,-4.15 1.95,-4.15 1.95,-3.85 1.25,-3.85 ; 1.25,-3.15 1.95,-3.15 1.95,-2.85 1.25,-2.85 ; 1.25,-2.15 1.95,-2.15 1.95,-1.85 1.25,-1.85 ; 1.25,-1.15 1.95,-1.15 1.95,-0.85 1.25,-0.85 ; 1.25,-0.15 1.95,-0.15 1.95,0.15 1.25,0.15 ; 1.25,0.85 1.95,0.85 1.95,1.15 1.25,1.15 ; 1.25,1.85 1.95,1.85 1.95,2.15 1.25,2.15 ; 1.25,2.85 1.95,2.85 1.95,3.15 1.25,3.15 ; 1.25,3.85 1.95,3.85 1.95,4.15 1.25,4.15 ; 1.25,4.85 1.95,4.85 1.95,5.15 1.25,5.15 ; 1.25,5.85 1.95,5.85 1.95,6.15 1.25,6.15 ; 1.25,6.85 1.95,6.85 1.95,7.15 1.25,7.15 ; 1.25,7.85 1.95,7.85 1.95,8.15 1.25,8.15 ; 1.25,8.85 1.95,8.85 1.95,9.15 1.25,9.15 ; 1.25,9.85 1.95,9.85 1.95,10.15 1.25,10.15 ; -1.25,-10.75 1.25,-10.75 1.25,10.125 0.625,10.75 -1.25,10.75 -1.25,-10.75
  text "'.Designator'" at 0.84,-4.047 h1
Top Courtyard:
  lines w0.254: -2.95,-11.25 2.95,-11.25 2.95,11.25 -2.95,11.25 -2.95,-11.25
Top Designator:
  text ".Designator" at -7.618,-0.508 h1.52

## PinSocket_2x22_P1.00mm_Vertical_SMD [mm]
pads (44):
  rect 1.85x0.5 smd: 1(1.525,10.5) 2(-1.525,10.5) 3(1.525,9.5) 4(-1.525,9.5) 5(1.525,8.5) 6(-1.525,8.5) 7(1.525,7.5) 8(-1.525,7.5) 9(1.525,6.5) 10(-1.525,6.5) 11(1.525,5.5) 12(-1.525,5.5) 13(1.525,4.5) 14(-1.525,4.5) 15(1.525,3.5) 16(-1.525,3.5) 17(1.525,2.5) 18(-1.525,2.5) 19(1.525,1.5) 20(-1.525,1.5) 21(1.525,0.5) 22(-1.525,0.5) 23(1.525,-0.5) 24(-1.525,-0.5) 25(1.525,-1.5) 26(-1.525,-1.5) 27(1.525,-2.5) 28(-1.525,-2.5) 29(1.525,-3.5) 30(-1.525,-3.5) 31(1.525,-4.5) 32(-1.525,-4.5) 33(1.525,-5.5) 34(-1.525,-5.5) 35(1.525,-6.5) 36(-1.525,-6.5) 37(1.525,-7.5) 38(-1.525,-7.5) 39(1.525,-8.5) 40(-1.525,-8.5) 41(1.525,-9.5) 42(-1.525,-9.5) 43(1.525,-10.5) 44(-1.525,-10.5)
F.SilkS:
  lines w0.254: -1.31,-11.01 -1.31,-11.31 1.31,-11.31 1.31,-11.01 ; -1.31,11.01 -1.31,11.31 1.31,11.31 1.31,11.01 2.39,11.01
Top Assembly:
  lines w0.254: -1.25,-10.65 -1.95,-10.65 -1.95,-10.35 -1.25,-10.35 ; -1.25,-9.65 -1.95,-9.65 -1.95,-9.35 -1.25,-9.35 ; -1.25,-8.65 -1.95,-8.65 -1.95,-8.35 -1.25,-8.35 ; -1.25,-7.65 -1.95,-7.65 -1.95,-7.35 -1.25,-7.35 ; -1.25,-6.65 -1.95,-6.65 -1.95,-6.35 -1.25,-6.35 ; -1.25,-5.65 -1.95,-5.65 -1.95,-5.35 -1.25,-5.35 ; -1.25,-4.65 -1.95,-4.65 -1.95,-4.35 -1.25,-4.35 ; -1.25,-3.65 -1.95,-3.65 -1.95,-3.35 -1.25,-3.35 ; -1.25,-2.65 -1.95,-2.65 -1.95,-2.35 -1.25,-2.35 ; -1.25,-1.65 -1.95,-1.65 -1.95,-1.35 -1.25,-1.35 ; -1.25,-0.65 -1.95,-0.65 -1.95,-0.35 -1.25,-0.35 ; -1.25,0.35 -1.95,0.35 -1.95,0.65 -1.25,0.65 ; -1.25,1.35 -1.95,1.35 -1.95,1.65 -1.25,1.65 ; -1.25,2.35 -1.95,2.35 -1.95,2.65 -1.25,2.65 ; -1.25,3.35 -1.95,3.35 -1.95,3.65 -1.25,3.65 ; -1.25,4.35 -1.95,4.35 -1.95,4.65 -1.25,4.65 ; -1.25,5.35 -1.95,5.35 -1.95,5.65 -1.25,5.65 ; -1.25,6.35 -1.95,6.35 -1.95,6.65 -1.25,6.65 ; -1.25,7.35 -1.95,7.35 -1.95,7.65 -1.25,7.65 ; -1.25,8.35 -1.95,8.35 -1.95,8.65 -1.25,8.65 ; -1.25,9.35 -1.95,9.35 -1.95,9.65 -1.25,9.65 ; -1.25,10.35 -1.95,10.35 -1.95,10.65 -1.25,10.65 ; 1.25,-10.65 1.95,-10.65 1.95,-10.35 1.25,-10.35 ; 1.25,-9.65 1.95,-9.65 1.95,-9.35 1.25,-9.35 ; 1.25,-8.65 1.95,-8.65 1.95,-8.35 1.25,-8.35 ; 1.25,-7.65 1.95,-7.65 1.95,-7.35 1.25,-7.35 ; 1.25,-6.65 1.95,-6.65 1.95,-6.35 1.25,-6.35 ; 1.25,-5.65 1.95,-5.65 1.95,-5.35 1.25,-5.35 ; 1.25,-4.65 1.95,-4.65 1.95,-4.35 1.25,-4.35 ; 1.25,-3.65 1.95,-3.65 1.95,-3.35 1.25,-3.35 ; 1.25,-2.65 1.95,-2.65 1.95,-2.35 1.25,-2.35 ; 1.25,-1.65 1.95,-1.65 1.95,-1.35 1.25,-1.35 ; 1.25,-0.65 1.95,-0.65 1.95,-0.35 1.25,-0.35 ; 1.25,0.35 1.95,0.35 1.95,0.65 1.25,0.65 ; 1.25,1.35 1.95,1.35 1.95,1.65 1.25,1.65 ; 1.25,2.35 1.95,2.35 1.95,2.65 1.25,2.65 ; 1.25,3.35 1.95,3.35 1.95,3.65 1.25,3.65 ; 1.25,4.35 1.95,4.35 1.95,4.65 1.25,4.65 ; 1.25,5.35 1.95,5.35 1.95,5.65 1.25,5.65 ; 1.25,6.35 1.95,6.35 1.95,6.65 1.25,6.65 ; 1.25,7.35 1.95,7.35 1.95,7.65 1.25,7.65 ; 1.25,8.35 1.95,8.35 1.95,8.65 1.25,8.65 ; 1.25,9.35 1.95,9.35 1.95,9.65 1.25,9.65 ; 1.25,10.35 1.95,10.35 1.95,10.65 1.25,10.65 ; -1.25,-11.25 1.25,-11.25 1.25,10.625 0.625,11.25 -1.25,11.25 -1.25,-11.25
  text "'.Designator'" at 0.84,-4.047 h1
Top Courtyard:
  lines w0.254: -2.95,-11.75 2.95,-11.75 2.95,11.75 -2.95,11.75 -2.95,-11.75
Top Designator:
  text ".Designator" at -7.618,-0.508 h1.52

## PinSocket_2x23_P1.00mm_Vertical_SMD [mm]
pads (46):
  rect 1.85x0.5 smd: 1(1.525,11) 2(-1.525,11) 3(1.525,10) 4(-1.525,10) 5(1.525,9) 6(-1.525,9) 7(1.525,8) 8(-1.525,8) 9(1.525,7) 10(-1.525,7) 11(1.525,6) 12(-1.525,6) 13(1.525,5) 14(-1.525,5) 15(1.525,4) 16(-1.525,4) 17(1.525,3) 18(-1.525,3) 19(1.525,2) 20(-1.525,2) 21(1.525,1) 22(-1.525,1) 23(1.525,0) 24(-1.525,0) 25(1.525,-1) 26(-1.525,-1) 27(1.525,-2) 28(-1.525,-2) 29(1.525,-3) 30(-1.525,-3) 31(1.525,-4) 32(-1.525,-4) 33(1.525,-5) 34(-1.525,-5) 35(1.525,-6) 36(-1.525,-6) 37(1.525,-7) 38(-1.525,-7) 39(1.525,-8) 40(-1.525,-8) 41(1.525,-9) 42(-1.525,-9) 43(1.525,-10) 44(-1.525,-10) 45(1.525,-11) 46(-1.525,-11)
F.SilkS:
  lines w0.254: -1.31,-11.51 -1.31,-11.81 1.31,-11.81 1.31,-11.51 ; -1.31,11.51 -1.31,11.81 1.31,11.81 1.31,11.51 2.39,11.51
Top Assembly:
  lines w0.254: -1.25,-11.15 -1.95,-11.15 -1.95,-10.85 -1.25,-10.85 ; -1.25,-10.15 -1.95,-10.15 -1.95,-9.85 -1.25,-9.85 ; -1.25,-9.15 -1.95,-9.15 -1.95,-8.85 -1.25,-8.85 ; -1.25,-8.15 -1.95,-8.15 -1.95,-7.85 -1.25,-7.85 ; -1.25,-7.15 -1.95,-7.15 -1.95,-6.85 -1.25,-6.85 ; -1.25,-6.15 -1.95,-6.15 -1.95,-5.85 -1.25,-5.85 ; -1.25,-5.15 -1.95,-5.15 -1.95,-4.85 -1.25,-4.85 ; -1.25,-4.15 -1.95,-4.15 -1.95,-3.85 -1.25,-3.85 ; -1.25,-3.15 -1.95,-3.15 -1.95,-2.85 -1.25,-2.85 ; -1.25,-2.15 -1.95,-2.15 -1.95,-1.85 -1.25,-1.85 ; -1.25,-1.15 -1.95,-1.15 -1.95,-0.85 -1.25,-0.85 ; -1.25,-0.15 -1.95,-0.15 -1.95,0.15 -1.25,0.15 ; -1.25,0.85 -1.95,0.85 -1.95,1.15 -1.25,1.15 ; -1.25,1.85 -1.95,1.85 -1.95,2.15 -1.25,2.15 ; -1.25,2.85 -1.95,2.85 -1.95,3.15 -1.25,3.15 ; -1.25,3.85 -1.95,3.85 -1.95,4.15 -1.25,4.15 ; -1.25,4.85 -1.95,4.85 -1.95,5.15 -1.25,5.15 ; -1.25,5.85 -1.95,5.85 -1.95,6.15 -1.25,6.15 ; -1.25,6.85 -1.95,6.85 -1.95,7.15 -1.25,7.15 ; -1.25,7.85 -1.95,7.85 -1.95,8.15 -1.25,8.15 ; -1.25,8.85 -1.95,8.85 -1.95,9.15 -1.25,9.15 ; -1.25,9.85 -1.95,9.85 -1.95,10.15 -1.25,10.15 ; -1.25,10.85 -1.95,10.85 -1.95,11.15 -1.25,11.15 ; 1.25,-11.15 1.95,-11.15 1.95,-10.85 1.25,-10.85 ; 1.25,-10.15 1.95,-10.15 1.95,-9.85 1.25,-9.85 ; 1.25,-9.15 1.95,-9.15 1.95,-8.85 1.25,-8.85 ; 1.25,-8.15 1.95,-8.15 1.95,-7.85 1.25,-7.85 ; 1.25,-7.15 1.95,-7.15 1.95,-6.85 1.25,-6.85 ; 1.25,-6.15 1.95,-6.15 1.95,-5.85 1.25,-5.85 ; 1.25,-5.15 1.95,-5.15 1.95,-4.85 1.25,-4.85 ; 1.25,-4.15 1.95,-4.15 1.95,-3.85 1.25,-3.85 ; 1.25,-3.15 1.95,-3.15 1.95,-2.85 1.25,-2.85 ; 1.25,-2.15 1.95,-2.15 1.95,-1.85 1.25,-1.85 ; 1.25,-1.15 1.95,-1.15 1.95,-0.85 1.25,-0.85 ; 1.25,-0.15 1.95,-0.15 1.95,0.15 1.25,0.15 ; 1.25,0.85 1.95,0.85 1.95,1.15 1.25,1.15 ; 1.25,1.85 1.95,1.85 1.95,2.15 1.25,2.15 ; 1.25,2.85 1.95,2.85 1.95,3.15 1.25,3.15 ; 1.25,3.85 1.95,3.85 1.95,4.15 1.25,4.15 ; 1.25,4.85 1.95,4.85 1.95,5.15 1.25,5.15 ; 1.25,5.85 1.95,5.85 1.95,6.15 1.25,6.15 ; 1.25,6.85 1.95,6.85 1.95,7.15 1.25,7.15 ; 1.25,7.85 1.95,7.85 1.95,8.15 1.25,8.15 ; 1.25,8.85 1.95,8.85 1.95,9.15 1.25,9.15 ; 1.25,9.85 1.95,9.85 1.95,10.15 1.25,10.15 ; 1.25,10.85 1.95,10.85 1.95,11.15 1.25,11.15 ; -1.25,-11.75 1.25,-11.75 1.25,11.125 0.625,11.75 -1.25,11.75 -1.25,-11.75
  text "'.Designator'" at 0.84,-4.047 h1
Top Courtyard:
  lines w0.254: -2.95,-12.25 2.95,-12.25 2.95,12.25 -2.95,12.25 -2.95,-12.25
Top Designator:
  text ".Designator" at -7.618,-0.508 h1.52

## PinSocket_2x24_P1.00mm_Vertical_SMD [mm]
pads (48):
  rect 1.85x0.5 smd: 1(1.525,11.5) 2(-1.525,11.5) 3(1.525,10.5) 4(-1.525,10.5) 5(1.525,9.5) 6(-1.525,9.5) 7(1.525,8.5) 8(-1.525,8.5) 9(1.525,7.5) 10(-1.525,7.5) 11(1.525,6.5) 12(-1.525,6.5) 13(1.525,5.5) 14(-1.525,5.5) 15(1.525,4.5) 16(-1.525,4.5) 17(1.525,3.5) 18(-1.525,3.5) 19(1.525,2.5) 20(-1.525,2.5) 21(1.525,1.5) 22(-1.525,1.5) 23(1.525,0.5) 24(-1.525,0.5) 25(1.525,-0.5) 26(-1.525,-0.5) 27(1.525,-1.5) 28(-1.525,-1.5) 29(1.525,-2.5) 30(-1.525,-2.5) 31(1.525,-3.5) 32(-1.525,-3.5) 33(1.525,-4.5) 34(-1.525,-4.5) 35(1.525,-5.5) 36(-1.525,-5.5) 37(1.525,-6.5) 38(-1.525,-6.5) 39(1.525,-7.5) 40(-1.525,-7.5) 41(1.525,-8.5) 42(-1.525,-8.5) 43(1.525,-9.5) 44(-1.525,-9.5) 45(1.525,-10.5) 46(-1.525,-10.5) 47(1.525,-11.5) 48(-1.525,-11.5)
F.SilkS:
  lines w0.254: -1.31,-12.01 -1.31,-12.31 1.31,-12.31 1.31,-12.01 ; -1.31,12.01 -1.31,12.31 1.31,12.31 1.31,12.01 2.39,12.01
Top Assembly:
  lines w0.254: -1.25,-11.65 -1.95,-11.65 -1.95,-11.35 -1.25,-11.35 ; -1.25,-10.65 -1.95,-10.65 -1.95,-10.35 -1.25,-10.35 ; -1.25,-9.65 -1.95,-9.65 -1.95,-9.35 -1.25,-9.35 ; -1.25,-8.65 -1.95,-8.65 -1.95,-8.35 -1.25,-8.35 ; -1.25,-7.65 -1.95,-7.65 -1.95,-7.35 -1.25,-7.35 ; -1.25,-6.65 -1.95,-6.65 -1.95,-6.35 -1.25,-6.35 ; -1.25,-5.65 -1.95,-5.65 -1.95,-5.35 -1.25,-5.35 ; -1.25,-4.65 -1.95,-4.65 -1.95,-4.35 -1.25,-4.35 ; -1.25,-3.65 -1.95,-3.65 -1.95,-3.35 -1.25,-3.35 ; -1.25,-2.65 -1.95,-2.65 -1.95,-2.35 -1.25,-2.35 ; -1.25,-1.65 -1.95,-1.65 -1.95,-1.35 -1.25,-1.35 ; -1.25,-0.65 -1.95,-0.65 -1.95,-0.35 -1.25,-0.35 ; -1.25,0.35 -1.95,0.35 -1.95,0.65 -1.25,0.65 ; -1.25,1.35 -1.95,1.35 -1.95,1.65 -1.25,1.65 ; -1.25,2.35 -1.95,2.35 -1.95,2.65 -1.25,2.65 ; -1.25,3.35 -1.95,3.35 -1.95,3.65 -1.25,3.65 ; -1.25,4.35 -1.95,4.35 -1.95,4.65 -1.25,4.65 ; -1.25,5.35 -1.95,5.35 -1.95,5.65 -1.25,5.65 ; -1.25,6.35 -1.95,6.35 -1.95,6.65 -1.25,6.65 ; -1.25,7.35 -1.95,7.35 -1.95,7.65 -1.25,7.65 ; -1.25,8.35 -1.95,8.35 -1.95,8.65 -1.25,8.65 ; -1.25,9.35 -1.95,9.35 -1.95,9.65 -1.25,9.65 ; -1.25,10.35 -1.95,10.35 -1.95,10.65 -1.25,10.65 ; -1.25,11.35 -1.95,11.35 -1.95,11.65 -1.25,11.65 ; 1.25,-11.65 1.95,-11.65 1.95,-11.35 1.25,-11.35 ; 1.25,-10.65 1.95,-10.65 1.95,-10.35 1.25,-10.35 ; 1.25,-9.65 1.95,-9.65 1.95,-9.35 1.25,-9.35 ; 1.25,-8.65 1.95,-8.65 1.95,-8.35 1.25,-8.35 ; 1.25,-7.65 1.95,-7.65 1.95,-7.35 1.25,-7.35 ; 1.25,-6.65 1.95,-6.65 1.95,-6.35 1.25,-6.35 ; 1.25,-5.65 1.95,-5.65 1.95,-5.35 1.25,-5.35 ; 1.25,-4.65 1.95,-4.65 1.95,-4.35 1.25,-4.35 ; 1.25,-3.65 1.95,-3.65 1.95,-3.35 1.25,-3.35 ; 1.25,-2.65 1.95,-2.65 1.95,-2.35 1.25,-2.35 ; 1.25,-1.65 1.95,-1.65 1.95,-1.35 1.25,-1.35 ; 1.25,-0.65 1.95,-0.65 1.95,-0.35 1.25,-0.35 ; 1.25,0.35 1.95,0.35 1.95,0.65 1.25,0.65 ; 1.25,1.35 1.95,1.35 1.95,1.65 1.25,1.65 ; 1.25,2.35 1.95,2.35 1.95,2.65 1.25,2.65 ; 1.25,3.35 1.95,3.35 1.95,3.65 1.25,3.65 ; 1.25,4.35 1.95,4.35 1.95,4.65 1.25,4.65 ; 1.25,5.35 1.95,5.35 1.95,5.65 1.25,5.65 ; 1.25,6.35 1.95,6.35 1.95,6.65 1.25,6.65 ; 1.25,7.35 1.95,7.35 1.95,7.65 1.25,7.65 ; 1.25,8.35 1.95,8.35 1.95,8.65 1.25,8.65 ; 1.25,9.35 1.95,9.35 1.95,9.65 1.25,9.65 ; 1.25,10.35 1.95,10.35 1.95,10.65 1.25,10.65 ; 1.25,11.35 1.95,11.35 1.95,11.65 1.25,11.65 ; -1.25,-12.25 1.25,-12.25 1.25,11.625 0.625,12.25 -1.25,12.25 -1.25,-12.25
  text "'.Designator'" at 0.84,-4.047 h1
Top Courtyard:
  lines w0.254: -2.95,-12.75 2.95,-12.75 2.95,12.75 -2.95,12.75 -2.95,-12.75
Top Designator:
  text ".Designator" at -7.618,-0.508 h1.52

## PinSocket_2x25_P1.00mm_Vertical_SMD [mm]
pads (50):
  rect 1.85x0.5 smd: 1(1.525,12) 2(-1.525,12) 3(1.525,11) 4(-1.525,11) 5(1.525,10) 6(-1.525,10) 7(1.525,9) 8(-1.525,9) 9(1.525,8) 10(-1.525,8) 11(1.525,7) 12(-1.525,7) 13(1.525,6) 14(-1.525,6) 15(1.525,5) 16(-1.525,5) 17(1.525,4) 18(-1.525,4) 19(1.525,3) 20(-1.525,3) 21(1.525,2) 22(-1.525,2) 23(1.525,1) 24(-1.525,1) 25(1.525,0) 26(-1.525,0) 27(1.525,-1) 28(-1.525,-1) 29(1.525,-2) 30(-1.525,-2) 31(1.525,-3) 32(-1.525,-3) 33(1.525,-4) 34(-1.525,-4) 35(1.525,-5) 36(-1.525,-5) 37(1.525,-6) 38(-1.525,-6) 39(1.525,-7) 40(-1.525,-7) 41(1.525,-8) 42(-1.525,-8) 43(1.525,-9) 44(-1.525,-9) 45(1.525,-10) 46(-1.525,-10) 47(1.525,-11) 48(-1.525,-11) 49(1.525,-12) 50(-1.525,-12)
F.SilkS:
  lines w0.254: -1.31,-12.51 -1.31,-12.81 1.31,-12.81 1.31,-12.51 ; -1.31,12.51 -1.31,12.81 1.31,12.81 1.31,12.51 2.39,12.51
Top Assembly:
  drawing of 155 lines, arcs and shapes, not listed
  text "'.Designator'" at 0.84,-4.047 h1
Top Courtyard:
  lines w0.254: -2.95,-13.25 2.95,-13.25 2.95,13.25 -2.95,13.25 -2.95,-13.25
Top Designator:
  text ".Designator" at -7.618,-0.508 h1.52

## PinSocket_2x26_P1.00mm_Vertical_SMD [mm]
pads (52):
  rect 1.85x0.5 smd: 1(1.525,12.5) 2(-1.525,12.5) 3(1.525,11.5) 4(-1.525,11.5) 5(1.525,10.5) 6(-1.525,10.5) 7(1.525,9.5) 8(-1.525,9.5) 9(1.525,8.5) 10(-1.525,8.5) 11(1.525,7.5) 12(-1.525,7.5) 13(1.525,6.5) 14(-1.525,6.5) 15(1.525,5.5) 16(-1.525,5.5) 17(1.525,4.5) 18(-1.525,4.5) 19(1.525,3.5) 20(-1.525,3.5) 21(1.525,2.5) 22(-1.525,2.5) 23(1.525,1.5) 24(-1.525,1.5) 25(1.525,0.5) 26(-1.525,0.5) 27(1.525,-0.5) 28(-1.525,-0.5) 29(1.525,-1.5) 30(-1.525,-1.5) 31(1.525,-2.5) 32(-1.525,-2.5) 33(1.525,-3.5) 34(-1.525,-3.5) 35(1.525,-4.5) 36(-1.525,-4.5) 37(1.525,-5.5) 38(-1.525,-5.5) 39(1.525,-6.5) 40(-1.525,-6.5) 41(1.525,-7.5) 42(-1.525,-7.5) 43(1.525,-8.5) 44(-1.525,-8.5) 45(1.525,-9.5) 46(-1.525,-9.5) 47(1.525,-10.5) 48(-1.525,-10.5) 49(1.525,-11.5) 50(-1.525,-11.5) 51(1.525,-12.5) 52(-1.525,-12.5)
F.SilkS:
  lines w0.254: -1.31,-13.01 -1.31,-13.31 1.31,-13.31 1.31,-13.01 ; -1.31,13.01 -1.31,13.31 1.31,13.31 1.31,13.01 2.39,13.01
Top Assembly:
  drawing of 161 lines, arcs and shapes, not listed
  text "'.Designator'" at 0.84,-4.047 h1
Top Courtyard:
  lines w0.254: -2.95,-13.75 2.95,-13.75 2.95,13.75 -2.95,13.75 -2.95,-13.75
Top Designator:
  text ".Designator" at -7.618,-0.508 h1.52

## PinSocket_2x27_P1.00mm_Vertical_SMD [mm]
pads (54):
  rect 1.85x0.5 smd: 1(1.525,13) 2(-1.525,13) 3(1.525,12) 4(-1.525,12) 5(1.525,11) 6(-1.525,11) 7(1.525,10) 8(-1.525,10) 9(1.525,9) 10(-1.525,9) 11(1.525,8) 12(-1.525,8) 13(1.525,7) 14(-1.525,7) 15(1.525,6) 16(-1.525,6) 17(1.525,5) 18(-1.525,5) 19(1.525,4) 20(-1.525,4) 21(1.525,3) 22(-1.525,3) 23(1.525,2) 24(-1.525,2) 25(1.525,1) 26(-1.525,1) 27(1.525,0) 28(-1.525,0) 29(1.525,-1) 30(-1.525,-1) 31(1.525,-2) 32(-1.525,-2) 33(1.525,-3) 34(-1.525,-3) 35(1.525,-4) 36(-1.525,-4) 37(1.525,-5) 38(-1.525,-5) 39(1.525,-6) 40(-1.525,-6) 41(1.525,-7) 42(-1.525,-7) 43(1.525,-8) 44(-1.525,-8) 45(1.525,-9) 46(-1.525,-9) 47(1.525,-10) 48(-1.525,-10) 49(1.525,-11) 50(-1.525,-11) 51(1.525,-12) 52(-1.525,-12) 53(1.525,-13) 54(-1.525,-13)
F.SilkS:
  lines w0.254: -1.31,-13.51 -1.31,-13.81 1.31,-13.81 1.31,-13.51 ; -1.31,13.51 -1.31,13.81 1.31,13.81 1.31,13.51 2.39,13.51
Top Assembly:
  drawing of 167 lines, arcs and shapes, not listed
  text "'.Designator'" at 0.84,-4.047 h1
Top Courtyard:
  lines w0.254: -2.95,-14.25 2.95,-14.25 2.95,14.25 -2.95,14.25 -2.95,-14.25
Top Designator:
  text ".Designator" at -7.618,-0.508 h1.52

## PinSocket_2x28_P1.00mm_Vertical_SMD [mm]
pads (56):
  rect 1.85x0.5 smd: 1(1.525,13.5) 2(-1.525,13.5) 3(1.525,12.5) 4(-1.525,12.5) 5(1.525,11.5) 6(-1.525,11.5) 7(1.525,10.5) 8(-1.525,10.5) 9(1.525,9.5) 10(-1.525,9.5) 11(1.525,8.5) 12(-1.525,8.5) 13(1.525,7.5) 14(-1.525,7.5) 15(1.525,6.5) 16(-1.525,6.5) 17(1.525,5.5) 18(-1.525,5.5) 19(1.525,4.5) 20(-1.525,4.5) 21(1.525,3.5) 22(-1.525,3.5) 23(1.525,2.5) 24(-1.525,2.5) 25(1.525,1.5) 26(-1.525,1.5) 27(1.525,0.5) 28(-1.525,0.5) 29(1.525,-0.5) 30(-1.525,-0.5) 31(1.525,-1.5) 32(-1.525,-1.5) 33(1.525,-2.5) 34(-1.525,-2.5) 35(1.525,-3.5) 36(-1.525,-3.5) 37(1.525,-4.5) 38(-1.525,-4.5) 39(1.525,-5.5) 40(-1.525,-5.5) 41(1.525,-6.5) 42(-1.525,-6.5) 43(1.525,-7.5) 44(-1.525,-7.5) 45(1.525,-8.5) 46(-1.525,-8.5) 47(1.525,-9.5) 48(-1.525,-9.5) 49(1.525,-10.5) 50(-1.525,-10.5) 51(1.525,-11.5) 52(-1.525,-11.5) 53(1.525,-12.5) 54(-1.525,-12.5) 55(1.525,-13.5) 56(-1.525,-13.5)
F.SilkS:
  lines w0.254: -1.31,-14.01 -1.31,-14.31 1.31,-14.31 1.31,-14.01 ; -1.31,14.01 -1.31,14.31 1.31,14.31 1.31,14.01 2.39,14.01
Top Assembly:
  drawing of 173 lines, arcs and shapes, not listed
  text "'.Designator'" at 0.84,-4.047 h1
Top Courtyard:
  lines w0.254: -2.95,-14.75 2.95,-14.75 2.95,14.75 -2.95,14.75 -2.95,-14.75
Top Designator:
  text ".Designator" at -7.618,-0.508 h1.52